# EAGLE library part MACH231T (library amd-mach)
AMD MACH SERIES
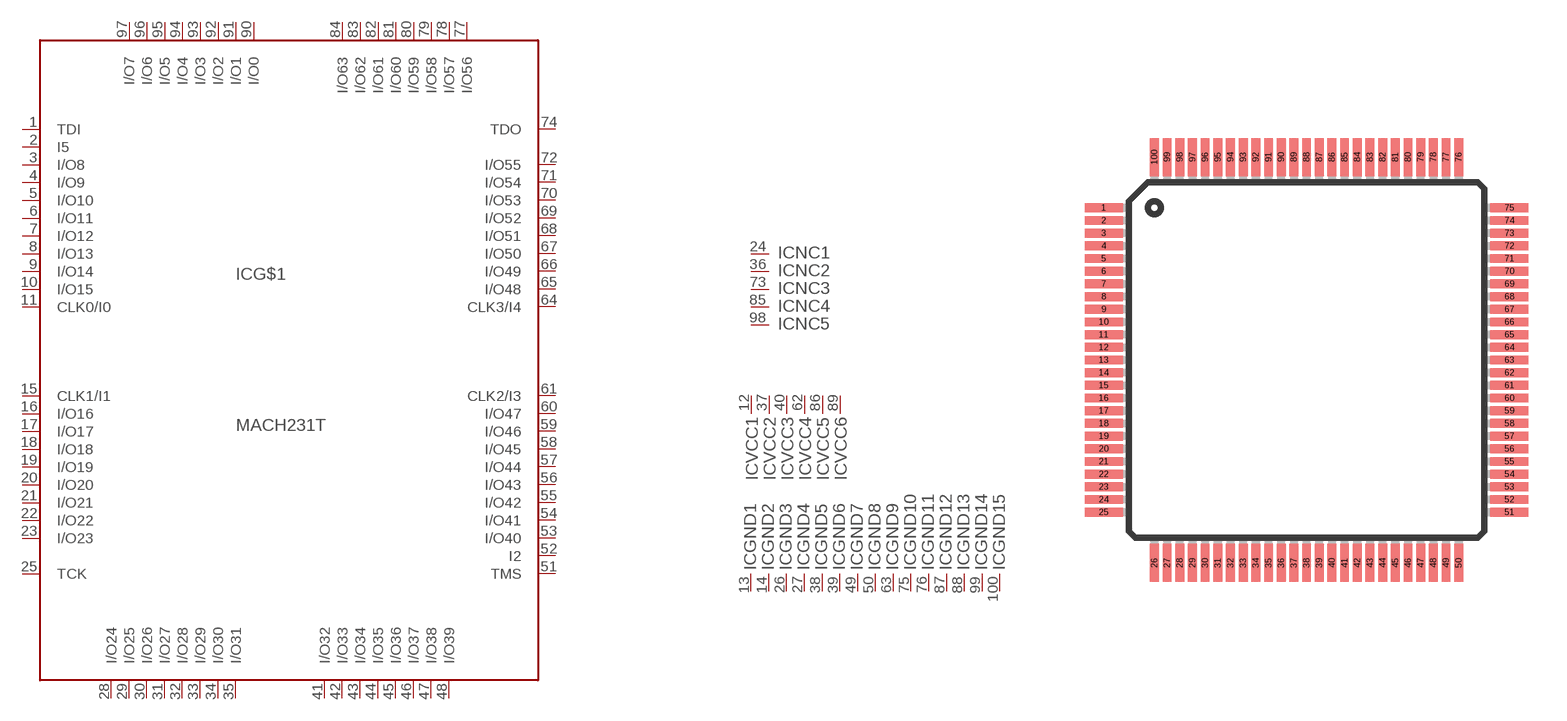
[diagram p10: symbol with the pads of TQFP100; footprint TQFP100]

Designator prefix IC; gates G$1=MACH231P GND1=GND GND2=GND GND3=GND GND4=GND GND5=GND GND6=GND GND7=GND GND8=GND GND9=GND GND10=GND GND11=GND GND12=GND GND13=GND GND14=GND GND15=GND VCC1=VCC VCC2=VCC VCC3=VCC VCC4=VCC VCC5=VCC VCC6=VCC NC1=NC NC2=NC NC3=NC NC4=NC NC5=NC

## MACH231T (OC_FARNELL: unknown; OC_NEWARK: unknown)  [TQFP100]
1  G$1:TDI  in
2  G$1:I5  in
3  G$1:I/O8
4  G$1:I/O9
5  G$1:I/O10
6  G$1:I/O11
7  G$1:I/O12
8  G$1:I/O13
9  G$1:I/O14
10  G$1:I/O15
11  G$1:CLK0/I0  in
12  VCC1:VCC  pwr
13  GND1:GND  pwr
14  GND2:GND  pwr
15  G$1:CLK1/I1  in
16  G$1:I/O16
17  G$1:I/O17
18  G$1:I/O18
19  G$1:I/O19
20  G$1:I/O20
21  G$1:I/O21
22  G$1:I/O22
23  G$1:I/O23
24  NC1:NC  nc
25  G$1:TCK  in
26  GND3:GND  pwr
27  GND4:GND  pwr
28  G$1:I/O24
29  G$1:I/O25
30  G$1:I/O26
31  G$1:I/O27
32  G$1:I/O28
33  G$1:I/O29
34  G$1:I/O30
35  G$1:I/O31
36  NC2:NC  nc
37  VCC2:VCC  pwr
38  GND5:GND  pwr
39  GND6:GND  pwr
40  VCC3:VCC  pwr
41  G$1:I/O32
42  G$1:I/O33
43  G$1:I/O34
44  G$1:I/O35
45  G$1:I/O36
46  G$1:I/O37
47  G$1:I/O38
48  G$1:I/O39
49  GND7:GND  pwr
50  GND8:GND  pwr
51  G$1:TMS  in
52  G$1:I2  in
53  G$1:I/O40
54  G$1:I/O41
55  G$1:I/O42
56  G$1:I/O43
57  G$1:I/O44
58  G$1:I/O45
59  G$1:I/O46
60  G$1:I/O47
61  G$1:CLK2/I3  in
62  VCC4:VCC  pwr
63  GND9:GND  pwr
64  G$1:CLK3/I4  in
65  G$1:I/O48
66  G$1:I/O49
67  G$1:I/O50
68  G$1:I/O51
69  G$1:I/O52
70  G$1:I/O53
71  G$1:I/O54
72  G$1:I/O55
73  NC3:NC  nc
74  G$1:TDO  in
75  GND10:GND  pwr
76  GND11:GND  pwr
77  G$1:I/O56
78  G$1:I/O57
79  G$1:I/O58
80  G$1:I/O59
81  G$1:I/O60
82  G$1:I/O61
83  G$1:I/O62
84  G$1:I/O63
85  NC4:NC  nc
86  VCC5:VCC  pwr
87  GND12:GND  pwr
88  GND13:GND  pwr
89  VCC6:VCC  pwr
90  G$1:I/O0
91  G$1:I/O1
92  G$1:I/O2
93  G$1:I/O3
94  G$1:I/O4
95  G$1:I/O5
96  G$1:I/O6
97  G$1:I/O7
98  NC5:NC  nc
99  GND14:GND  pwr
100  GND15:GND  pwr

## Footprint TQFP100 (pad centres in mm)
THIN QUAD FLAT PACK
smd 1.5 x 0.35: 1 -8,6; 2 -8,5.5; 3 -8,5; 4 -8,4.5; 5 -8,4; 6 -8,3.5; 7 -8,3; 8 -8,2.5; 9 -8,2; 10 -8,1.5; 11 -8,1; 12 -8,0.5; 13 -8,0; 14 -8,-0.5; 15 -8,-1; 16 -8,-1.5; 17 -8,-2; 18 -8,-2.5; 19 -8,-3; 20 -8,-3.5; 21 -8,-4; 22 -8,-4.5; 23 -8,-5; 24 -8,-5.5; 25 -8,-6; 51 8,-6; 52 8,-5.5; 53 8,-5; 54 8,-4.5; 55 8,-4; 56 8,-3.5; 57 8,-3; 58 8,-2.5; 59 8,-2; 60 8,-1.5; 61 8,-1; 62 8,-0.5; 63 8,0; 64 8,0.5; 65 8,1; 66 8,1.5; 67 8,2; 68 8,2.5; 69 8,3; 70 8,3.5; 71 8,4; 72 8,4.5; 73 8,5; 74 8,5.5; 75 8,6
smd 0.35 x 1.5: 26 -6,-8; 27 -5.5,-8; 28 -5,-8; 29 -4.5,-8; 30 -4,-8; 31 -3.5,-8; 32 -3,-8; 33 -2.5,-8; 34 -2,-8; 35 -1.5,-8; 36 -1,-8; 37 -0.5,-8; 38 0,-8; 39 0.5,-8; 40 1,-8; 41 1.5,-8; 42 2,-8; 43 2.5,-8; 44 3,-8; 45 3.5,-8; 46 4,-8; 47 4.5,-8; 48 5,-8; 49 5.5,-8; 50 6,-8; 76 6,8; 77 5.5,8; 78 5,8; 79 4.5,8; 80 4,8; 81 3.5,8; 82 3,8; 83 2.5,8; 84 2,8; 85 1.5,8; 86 1,8; 87 0.5,8; 88 0,8; 89 -0.5,8; 90 -1,8; 91 -1.5,8; 92 -2,8; 93 -2.5,8; 94 -3,8; 95 -3.5,8; 96 -4,8; 97 -4.5,8; 98 -5,8; 99 -5.5,8; 100 -6,8